# EAGLE library part NOKIA-1616 (library LCD)
1.8'',TFT with 64k color 128x160 pixels, ~114 ppi. 3.3v with 7v backlight. Compatible with Nokia 1616, 1661, 1800, 5030, 1662. Can be soldered directly to board, no connector required.
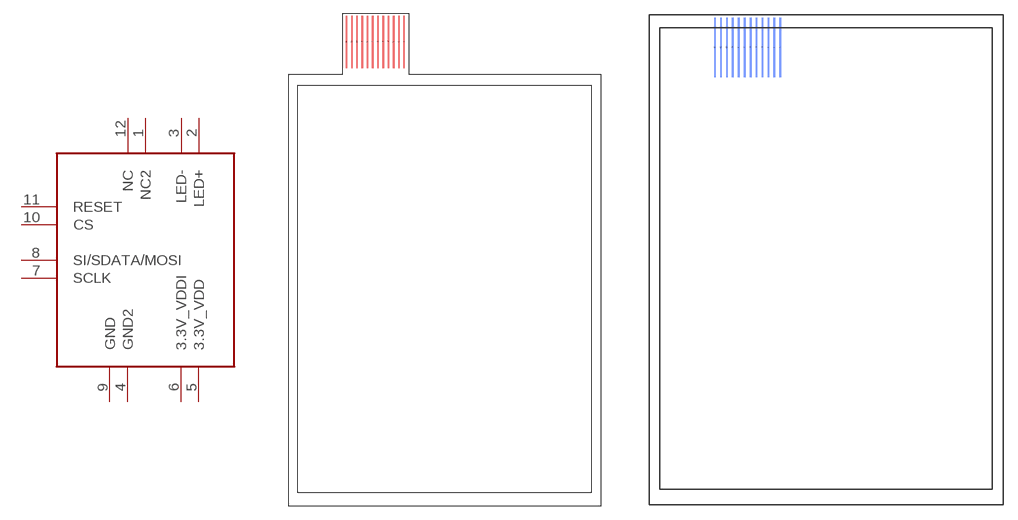
[diagram p0: symbol with the pads of NOKIA-1616; footprints NOKIA-1616, NOKIA-1616-PINBOTTOM]

Designator prefix -

## NOKIA-1616PIN-ONTOP  [NOKIA-1616]
1  NC2  nc
2  LED+  in
3  LED-  in
4  GND2  pwr
5  3.3V_VDD  pwr
6  3.3V_VDDI  pwr
7  SCLK  in
8  SI/SDATA/MOSI
9  GND  pwr
10  CS  in
11  RESET  in
12  NC  nc

## NOKIA-1616PIN-BOTTOM  [NOKIA-1616-PINBOTTOM]
Pads as for NOKIA-1616

## Footprint NOKIA-1616 (pad centres in mm)
Nokia 1616 LCD package with space for the LCD and pinout on same side with the LCD.
smd 0.18 x 6: 1 -4.95,30.39; 2 -5.55,30.39; 3 -6.15,30.39; 4 -6.75,30.39; 5 -7.35,30.39; 6 -7.95,30.39; 7 -8.55,30.39; 8 -9.15,30.39; 10 -10.35,30.39; 11 -10.95,30.39; 12 -11.55,30.39
smd 0.2 x 6: 9 -9.75,30.39

## Footprint NOKIA-1616-PINBOTTOM (pad centres in mm)
Nokia 1616 LCD package with space for the LCD and pinout on same side with the LCD.
smd 0.18 x 6 bottom: 1 -4.95,23.405; 2 -5.55,23.405; 3 -6.15,23.405; 4 -6.75,23.405; 5 -7.35,23.405; 6 -7.95,23.405; 7 -8.55,23.405; 8 -9.15,23.405; 10 -10.35,23.405; 11 -10.95,23.405; 12 -11.55,23.405
smd 0.2 x 6 bottom: 9 -9.75,23.405